# Altium footprint library STM32F103VET6.PcbLib: 79 footprints (part 5 of 5)
Each footprint in its own frame and in the unit in brackets; x right, y up, seen from the top. Pads: shape width x height; smd on the part's side, far side on the other; paste and mask are expansions set on the pad; w line width, h text height; cw(c..) or ccw(c..) is an arc to the next point about the centre after c.
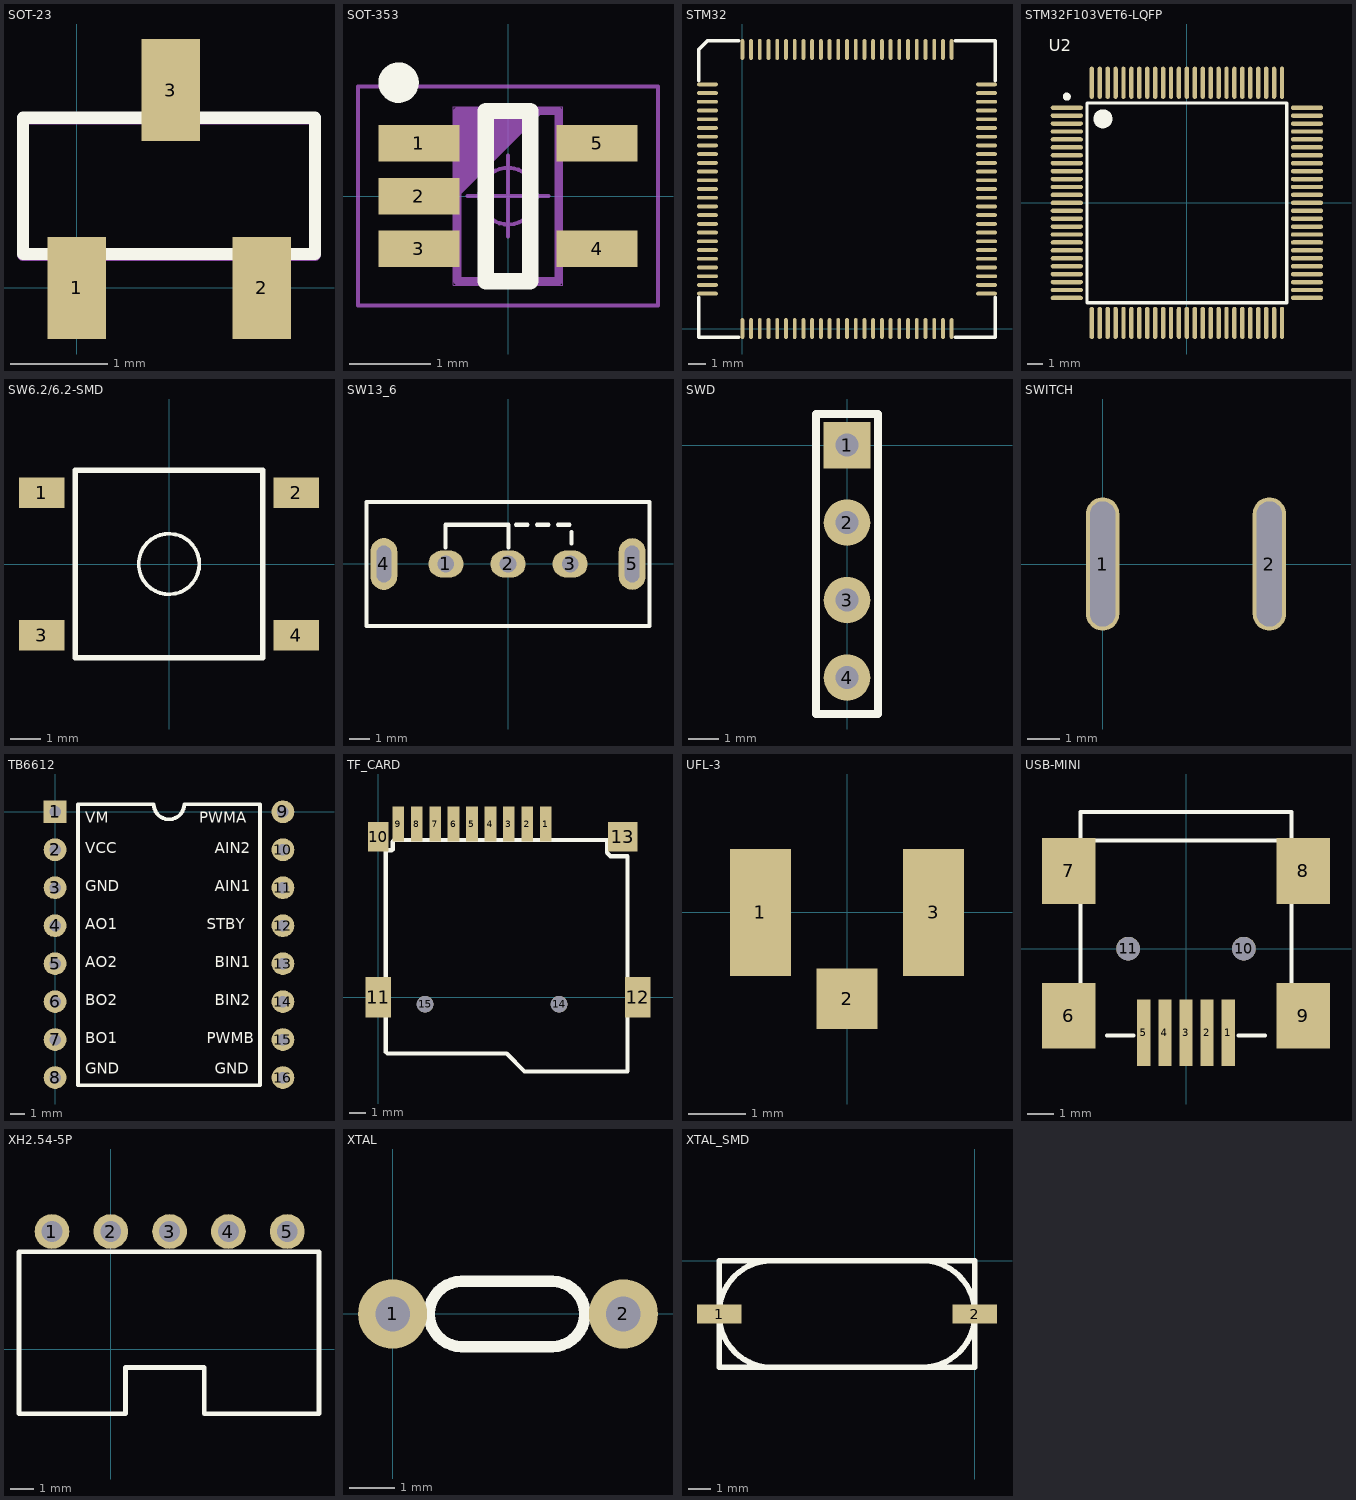
[diagram p4: the footprints below, top view; thin cyan lines are the x and y axes]

## SOT-23 [mm]
pads (3):
  rect 0.6x1.05 smd: 1(0,0) 2(1.9,0) 3(0.965,2.032)
Top Overlay:
  lines w0.127: -0.553,0.348 2.447,0.348 2.447,1.748 -0.553,1.748 -0.553,0.348
Mechanical 1:
  lines w0.127: -0.554,0.342 2.446,0.342 2.446,1.742 -0.554,1.742 -0.554,0.342

## SOT-353 [mm]
height 1.1
pads (5):
  rect 1x0.45 smd: 1(-1.1,0.65) 2(-1.1,0) 3(-1.1,-0.65) 4(1.1,-0.65) 5(1.1,0.65)
Top Overlay:
  circle w0.25: c-1.35,1.4 r0.125
  lines w0.2: -0.275,-1.05 -0.275,1.05 0.275,1.05 0.275,-1.05 -0.275,-1.05
Mechanical 1:
  lines w0.1: -0.625,0.05 0.375,1.05 ; -0.625,0.15 0.275,1.05 ; -0.625,0.25 0.175,1.05 ; -0.625,0.35 0.075,1.05 ; -0.625,0.45 -0.025,1.05 ; -0.625,0.55 -0.125,1.05 ; -0.625,0.65 -0.225,1.05 ; -0.625,0.75 -0.325,1.05 ; -0.625,0.85 -0.425,1.05 ; -0.625,0.95 -0.525,1.05 ; -0.625,-1.05 -0.625,1.05 0.625,1.05 0.625,-1.05 -0.625,-1.05
Mechanical 16:
  circle w0.05: c0,0 r0.35
  lines w0.001: -0.675,-1.1 -0.675,1.1 0.675,1.1 0.675,-1.1 -0.675,-1.1
  lines w0.05: -0.5,0 0.5,0 ; 0,-0.5 0,0.5 ; -1.85,-1.35 -1.85,1.35 1.85,1.35 1.85,-1.35 -1.85,-1.35

## STM32 [mm]
pads (100):
  oval 0.22x1.2 smd: 1(0,0) 2(0.5,0) 3(1,0) 4(1.5,0) 5(2,0) 6(2.5,0) 7(3,0) 8(3.5,0) 9(4,0) 10(4.5,0) 11(5,0) 12(5.5,0) 13(6,0) 14(6.5,0) 15(7,0) 16(7.5,0) 17(8,0) 18(8.5,0) 19(9,0) 20(9.5,0) 21(10,0) 22(10.5,0) 23(11,0) 24(11.5,0) 25(12,0) 51(12,16) 52(11.5,16) 53(11,16) 54(10.5,16) 55(10,16) 56(9.5,16) 57(9,16) 58(8.5,16) 59(8,16) 60(7.5,16) 61(7,16) 62(6.5,16) 63(6,16) 64(5.5,16) 65(5,16) 66(4.5,16) 67(4,16) 68(3.5,16) 69(3,16) 70(2.5,16) 71(2,16) 72(1.5,16) 73(1,16) 74(0.5,16) 75(0,16)
  oval 1.2x0.22 smd: 26(14,2) 27(14,2.5) 28(14,3) 29(14,3.5) 30(14,4) 31(14,4.5) 32(14,5) 33(14,5.5) 34(14,6) 35(14,6.5) 36(14,7) 37(14,7.5) 38(14,8) 39(14,8.5) 40(14,9) 41(14,9.5) 42(14,10) 43(14,10.5) 44(14,11) 45(14,11.5) 46(14,12) 47(14,12.5) 48(14,13) 49(14,13.5) 50(14,14) 76(-2,14) 77(-2,13.5) 78(-2,13) 79(-2,12.5) 80(-2,12) 81(-2,11.5) 82(-2,11) 83(-2,10.5) 84(-2,10) 85(-2,9.5) 86(-2,9) 87(-2,8.5) 88(-2,8) 89(-2,7.5) 90(-2,7) 91(-2,6.5) 92(-2,6) 93(-2,5.5) 94(-2,5) 95(-2,4.5) 96(-2,4) 97(-2,3.5) 98(-2,3) 99(-2,2.5) 100(-2,2)
Top Overlay:
  lines w0.2: -2.5,1.78 -2.5,-0.5 -0.22,-0.5 ; -2.5,14.22 -2.5,16 -2,16.5 -0.22,16.5 ; 12.22,-0.5 14.5,-0.5 14.5,1.78 ; 12.22,16.5 14.5,16.5 14.5,14.22

## STM32F103VET6-LQFP [mil]
height 62.99
pads (100):
  oval 80x11 smd: 1(-298.23,236.22) 2(-298.23,216.54) 3(-298.23,196.85) 4(-298.23,177.17) 5(-298.23,157.48) 6(-298.23,137.8) 7(-298.23,118.11) 8(-298.23,98.43) 9(-298.23,78.74) 10(-298.23,59.06) 11(-298.23,39.37) 12(-298.23,19.68) 13(-298.23,0) 14(-298.23,-19.69) 15(-298.23,-39.37) 16(-298.23,-59.06) 17(-298.23,-78.74) 18(-298.23,-98.43) 19(-298.23,-118.11) 20(-298.23,-137.8) 21(-298.23,-157.48) 22(-298.23,-177.17) 23(-298.23,-196.85) 24(-298.23,-216.54) 25(-298.23,-236.22) 51(298.23,-236.22) 52(298.23,-216.54) 53(298.23,-196.85) 54(298.23,-177.17) 55(298.23,-157.48) 56(298.23,-137.8) 57(298.23,-118.11) 58(298.23,-98.43) 59(298.23,-78.74) 60(298.23,-59.06) 61(298.23,-39.37) 62(298.23,-19.69) 63(298.23,0) 64(298.23,19.68) 65(298.23,39.37) 66(298.23,59.06) 67(298.23,78.74) 68(298.23,98.43) 69(298.23,118.11) 70(298.23,137.8) 71(298.23,157.48) 72(298.23,177.17) 73(298.23,196.85) 74(298.23,216.54) 75(298.23,236.22)
  oval 11x80 smd: 26(-236.22,-298.23) 27(-216.54,-298.23) 28(-196.85,-298.23) 29(-177.17,-298.23) 30(-157.48,-298.23) 31(-137.8,-298.23) 32(-118.11,-298.23) 33(-98.43,-298.23) 34(-78.74,-298.23) 35(-59.06,-298.23) 36(-39.37,-298.23) 37(-19.68,-298.23) 38(0,-298.23) 39(19.69,-298.23) 40(39.37,-298.23) 41(59.06,-298.23) 42(78.74,-298.23) 43(98.43,-298.23) 44(118.11,-298.23) 45(137.8,-298.23) 46(157.48,-298.23) 47(177.17,-298.23) 48(196.85,-298.23) 49(216.54,-298.23) 50(236.22,-298.23) 76(236.22,298.23) 77(216.54,298.23) 78(196.85,298.23) 79(177.17,298.23) 80(157.48,298.23) 81(137.8,298.23) 82(118.11,298.23) 83(98.43,298.23) 84(78.74,298.23) 85(59.06,298.23) 86(39.37,298.23) 87(19.69,298.23) 88(0,298.23) 89(-19.68,298.23) 90(-39.37,298.23) 91(-59.06,298.23) 92(-78.74,298.23) 93(-98.43,298.23) 94(-118.11,298.23) 95(-137.8,298.23) 96(-157.48,298.23) 97(-177.17,298.23) 98(-196.85,298.23) 99(-216.54,298.23) 100(-236.22,298.23)
Top Overlay:
  circle w9.84: c-298.23,263.78 r4.92
  circle w23.62: c-208.66,208.66 r11.81
  lines w7.87: -248.03,-248.03 -248.03,248.03 248.03,248.03 248.03,-248.03 -248.03,-248.03
  text "U2" at -342.62,376.89 h30

## SW6.2/6.2-SMD [mm]
pads (4):
  rect 1.5x1 smd: 1(-4.2,2.35) 2(4.2,2.35) 3(-4.2,-2.35) 4(4.2,-2.35)
Top Overlay:
  circle w0.127: c0,0 r1
  lines w0.178: -3.1,-3.1 3.1,-3.1 3.1,3.1 -3.1,3.1 -3.1,-3.1

## SW13_6 [mm]
pads (5):
  oval 1.7x1.3 hole 0.8: 1(-3,0) 2(0,0) 3(3,0)
  oval 1.3x2.5 hole 0.7 slot 1.778 at 90 deg: 4(-6,0) 5(6,0)
Top Overlay:
  lines w0.203: -3.023,0.8 -3.023,1.9 0.025,1.9 0.025,0.8 ; 0.381,1.9 0.94,1.9 ; 1.397,1.9 1.956,1.9 ; 2.413,1.9 2.972,1.9 ; 3.073,0.984 3.073,1.543 ; -6.833,-3 -6.833,3 6.833,3 6.833,-3 -6.833,-3

## SWD [mil]
pads (4):
  rect 60x60 hole 30: 1(0,0)
  round 60 hole 30: 2(0,-100) 3(0,-200) 4(0,-300)
Top Overlay:
  lines w10: -40,-347 -40,40 40,40 40,-347 -40,-347

## SWITCH [mil]
pads (2):
  oval 40x160 hole 30 slot 150 at 90 deg: 1(0,0) 2(200,0)

## TB6612 [mil]
pads (16):
  rect 60x60 hole 30: 1(0,0)
  round 60 hole 30: 2(0,-100) 3(0,-200) 4(0,-300) 5(0,-400) 6(0,-500) 7(0,-600) 8(0,-700) 9(600,0) 10(600,-100) 11(600,-200) 12(600,-300) 13(600,-400) 14(600,-500) 15(600,-600) 16(600,-700)
Top Overlay:
  lines w10: 60,-720 60,20 260,20 ccw(c300,20) 340,20 540,20 540,-720 60,-720
  text "VCC" at 80,-120 h50
  text "VM" at 80,-40 h50
  text "GND" at 80,-220 h50
  text "AO1" at 80,-320 h50
  text "AO2" at 80,-420 h50
  text "BO2" at 80,-520 h50
  text "BO1" at 80,-620 h50
  text "GND" at 80,-700 h50
  text "PWMA" at 380,-40 h50
  text "AIN2" at 420,-120 h50
  text "AIN1" at 420,-220 h50
  text "STBY" at 400,-320 h50
  text "BIN1" at 420,-420 h50
  text "BIN2" at 420,-520 h50
  text "PWMB" at 400,-620 h50
  text "GND" at 420,-700 h50

## TF_CARD [mm]
pads (15):
  rect 0.7x2.1 smd: 1(10,10.35) 2(8.9,10.35) 3(7.8,10.35) 4(6.7,10.35) 5(5.6,10.35) 6(4.5,10.35) 7(3.4,10.35) 8(2.3,10.35) 9(1.2,10.35)
  rect 1.2x1.778 smd: 10(0,9.6)
  rect 1.524x2.413 smd: 11(0,0) 12(15.5,0)
  rrect0% 1.778x1.778 smd: 13(14.6,9.6)
  round 1 hole 1: 14(10.8,-0.4) 15(2.8,-0.4)
Top Overlay:
  lines w0.254: 0.406,8.788 0.813,8.788 0.864,8.839 0.864,9.296 0.965,9.398 13.665,9.398 13.665,8.636 13.868,8.433 14.884,8.433 14.884,-4.4 8.738,-4.42 7.671,-3.353 0.559,-3.353 0.457,-3.251 0.457,8.738 0.406,8.788

## UFL-3 [mm]
pads (3):
  rect 1.05x2.2 smd: 1(-1.5,0) 3(1.5,0)
  rect 1.05x1.05 smd: 2(0,-1.5)

## USB-MINI [mm]
pads (11):
  rect 0.508x2.54 smd: 1(1.6,-3.2) 2(0.8,-3.2) 3(0,-3.2) 4(-0.8,-3.2) 5(-1.6,-3.2)
  rect 2.032x2.5 smd: 6(-4.45,-2.55) 7(-4.45,2.95) 8(4.45,2.95) 9(4.45,-2.55)
  round 0.9 hole 0.9 unplated: 10(2.2,0) 11(-2.2,0)
Top Overlay:
  lines w0.152: -4,-1.5 -4,1.9 ; -4,4 -4,5.2 4,5.2 4,4 ; -4,4.1 4,4.1 ; -3,-3.3 -2,-3.3 ; 2,-3.3 3,-3.3 ; 4,-1.5 4,1.9

## XH2.54-5P [mm]
pads (5):
  round 1.5 hole 0.9: 1(-2.54,5.08) 2(0,5.08) 3(2.54,5.08) 4(5.08,5.08) 5(7.62,5.08)
Top Overlay:
  lines w0.2: -3.964,-2.794 0.636,-2.794 0.636,-0.794 4.036,-0.794 4.036,-2.794 8.992,-2.794 8.992,4.206 -3.964,4.206 -3.964,-2.794

## XTAL [mil]
pads (2):
  round 60 hole 30: 1(0,0) 2(200,0)
Top Overlay:
  lines w10: 60,-28.28 cw(c60,0) 60,28.28 138.28,28.28 cw(c138.28,0) 138.28,-28.28 60,-28.28

## XTAL_SMD [mm]
pads (2):
  rect 2x0.85 smd: 1(-11.5,-2.4) 2(0,-2.4)
Top Overlay:
  lines w0.254: -11.5,-2.469 -11.5,-2.4 ; -11.5,-2.468 ccw(c-9.135,-2.435) -9.102,-4.8 ; -11.5,-2.398 cw(c-9.135,-2.365) -9.168,0 ; -2.398,0 cw(c-2.365,-2.365) 0,-2.332 ; -2.332,-4.8 ccw(c-2.365,-2.435) 0,-2.402 ; 0,-2.4 0,-2.331 ; -11.5,-4.8 -11.5,0 0,0 0,-4.8 -11.5,-4.8